# Altium schematic symbol library Timer_RTC.SchLib: 39 symbols
Pins are listed as number, name and electrical type; pins without a type are passive.

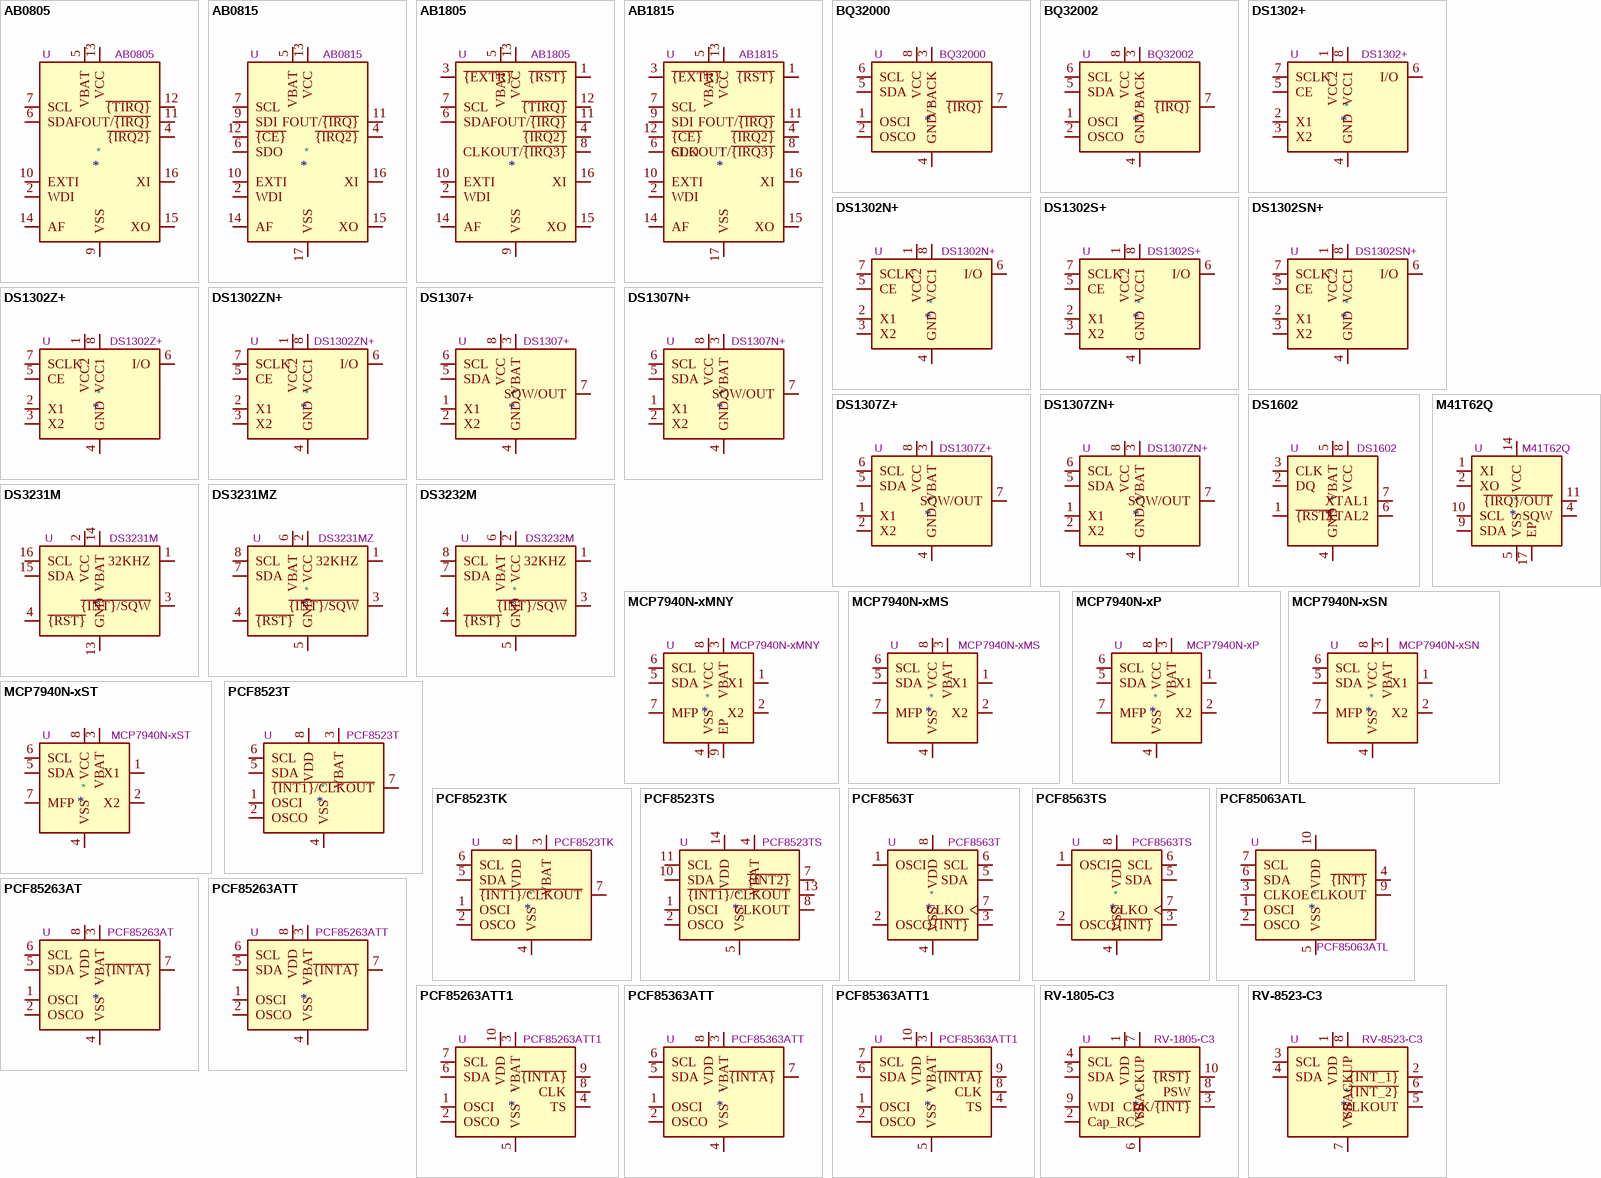
[diagram p0: symbols AB0805 to RV-8523-C3]

## AB0805
designator *  value AB0805  Reference: U
ki_keywords: rtc; ki_description: Real-Time Clock, I2C Interface, 3 GPO, QFN-16; ki_fp_filters: VQFN*1EP*3x3mm*P0.5mm*; Footprint: Package_DFN_QFN:VQFN-16-1EP_3x3mm_P0.5mm_EP1.8x1.8mm; Datasheet: https://abracon.com/Precisiontiming/AB08X5-RTC.PDF
pins: 1 NC hidden, 2 WDI, 3 NC hidden, 4 ~{{IRQ2}}, 5 VBAT, 6 SDA, 7 SCL, 8 NC hidden, 9 VSS, 10 EXTI, 11 FOUT/~{{IRQ}}, 12 ~{{TIRQ}}, 13 VCC, 14 AF, 15 XO, 16 XI, 17 VSS hidden

## AB0815
designator *  value AB0815  Reference: U
ki_keywords: rtc; ki_description: Real-Time Clock, SPI Interface, 2 GPO, QFN-16; ki_fp_filters: VQFN*1EP*3x3mm*P0.5mm*; Footprint: Package_DFN_QFN:VQFN-16-1EP_3x3mm_P0.5mm_EP1.8x1.8mm; Datasheet: https://abracon.com/Precisiontiming/AB08X5-RTC.PDF
pins: 1 NC hidden, 2 WDI, 3 NC hidden, 4 ~{{IRQ2}}, 5 VBAT, 6 SDO, 7 SCL, 8 NC hidden, 9 SDI, 10 EXTI, 11 FOUT/~{{IRQ}}, 12 ~{{CE}}, 13 VCC, 14 AF, 15 XO, 16 XI, 17 VSS

## AB1805
designator *  value AB1805  Reference: U
ki_keywords: rtc; ki_description: Real-Time Clock, I2C Interface, 4 GPO, QFN-16; ki_fp_filters: VQFN*1EP*3x3mm*P0.5mm*; Footprint: Package_DFN_QFN:VQFN-16-1EP_3x3mm_P0.5mm_EP1.8x1.8mm; Datasheet: https://abracon.com/Precisiontiming/AB18X5-RTC.pdf
pins: 1 ~{{RST}}, 2 WDI, 3 ~{{EXTR}}, 4 ~{{IRQ2}}, 5 VBAT, 6 SDA, 7 SCL, 8 CLKOUT/~{{IRQ3}}, 9 VSS, 10 EXTI, 11 FOUT/~{{IRQ}}, 12 ~{{TIRQ}}, 13 VCC, 14 AF, 15 XO, 16 XI, 17 VSS hidden

## AB1815
designator *  value AB1815  Reference: U
ki_keywords: rtc; ki_description: Real-Time Clock, SPI Interface, 3 GPO, QFN-16; ki_fp_filters: VQFN*1EP*3x3mm*P0.5mm*; Footprint: Package_DFN_QFN:VQFN-16-1EP_3x3mm_P0.5mm_EP1.8x1.8mm; Datasheet: https://abracon.com/Precisiontiming/AB18X5-RTC.pdf
pins: 1 ~{{RST}}, 2 WDI, 3 ~{{EXTR}}, 4 ~{{IRQ2}}, 5 VBAT, 6 SDO, 7 SCL, 8 CLKOUT/~{{IRQ3}}, 9 SDI, 10 EXTI, 11 FOUT/~{{IRQ}}, 12 ~{{CE}}, 13 VCC, 14 AF, 15 XO, 16 XI, 17 VSS

## BQ32000
designator *  value BQ32000  Reference: U
ki_keywords: RTC, I2C Timekeeping Chip; ki_description: Serial, I2C Real-time clock, Trickle charger, 3V to 3.6V VCC, -40°C to +85°C, SOIC-8; ki_fp_filters: SOIC*3.9x4.9mm?P1.27mm*; Footprint: Package_SO:SOIC-8_3.9x4.9mm_P1.27mm; Datasheet: http://www.ti.com/lit/ds/symlink/bq32000.pdf
pins: 1 OSCI, 2 OSCO, 3 VBACK, 4 GND, 5 SDA, 6 SCL, 7 ~{{IRQ}}, 8 VCC

## BQ32002
designator *  value BQ32002  Reference: U
ki_keywords: RTC, I2C Timekeeping Chip; ki_description: Serial, I2C Real-time clock, 3V to 3.6V VCC, -40°C to +85°C, SOIC-8; ki_fp_filters: SOIC*3.9x4.9mm?P1.27mm*; Footprint: Package_SO:SOIC-8_3.9x4.9mm_P1.27mm; Datasheet: http://www.ti.com/lit/ds/symlink/bq32002.pdf
pins: 1 OSCI, 2 OSCO, 3 VBACK, 4 GND, 5 SDA, 6 SCL, 7 ~{{IRQ}}, 8 VCC

## DS1302+
designator *  value DS1302+  Reference: U
ki_keywords: RTC, Trickle-Charge Timekeeping Chip; ki_description: Trickle-Charge Timekeeping Chip, 2.0V to 5.5V VCC, 0°C to +70°C, DIP-8; ki_fp_filters: DIP*W7.62mm*; Footprint: Package_DIP:DIP-8_W7.62mm; Datasheet: https://datasheets.maximintegrated.com/en/ds/DS1302.pdf
pins: 1 VCC2, 2 X1, 3 X2, 4 GND, 5 CE, 6 I/O, 7 SCLK, 8 VCC1

## DS1302N+
designator *  value DS1302N+  Reference: U
ki_keywords: RTC, Trickle-Charge Timekeeping Chip; ki_description: Trickle-Charge Timekeeping Chip, 2.0V to 5.5V VCC, -40°C to +85°C, DIP-8; ki_fp_filters: DIP*W7.62mm*; Footprint: Package_DIP:DIP-8_W7.62mm; Datasheet: https://datasheets.maximintegrated.com/en/ds/DS1302.pdf
pins: 1 VCC2, 2 X1, 3 X2, 4 GND, 5 CE, 6 I/O, 7 SCLK, 8 VCC1

## DS1302S+
designator *  value DS1302S+  Reference: U
ki_keywords: RTC, Trickle-Charge Timekeeping Chip; ki_description: Trickle-Charge Timekeeping Chip, 2.0V to 5.5V VCC, 0°C to +70°C, SO-8; ki_fp_filters: SO*5.3x6.2mm?P1.27mm*; Footprint: Package_SO:SO-8_5.3x6.2mm_P1.27mm; Datasheet: https://datasheets.maximintegrated.com/en/ds/DS1302.pdf
pins: 1 VCC2, 2 X1, 3 X2, 4 GND, 5 CE, 6 I/O, 7 SCLK, 8 VCC1

## DS1302SN+
designator *  value DS1302SN+  Reference: U
ki_keywords: RTC, Trickle-Charge Timekeeping Chip; ki_description: Trickle-Charge Timekeeping Chip, 2.0V to 5.5V VCC, -40°C to +85°C, SO-8; ki_fp_filters: SO*5.3x6.2mm?P1.27mm*; Footprint: Package_SO:SO-8_5.3x6.2mm_P1.27mm; Datasheet: https://datasheets.maximintegrated.com/en/ds/DS1302.pdf
pins: 1 VCC2, 2 X1, 3 X2, 4 GND, 5 CE, 6 I/O, 7 SCLK, 8 VCC1

## DS1302Z+
designator *  value DS1302Z+  Reference: U
ki_keywords: RTC, Trickle-Charge Timekeeping Chip; ki_description: Trickle-Charge Timekeeping Chip, 2.0V to 5.5V VCC, 0°C to +70°C, SOIC-8; ki_fp_filters: SOIC*3.9x4.9mm?P1.27mm*; Footprint: Package_SO:SOIC-8_3.9x4.9mm_P1.27mm; Datasheet: https://datasheets.maximintegrated.com/en/ds/DS1302.pdf
pins: 1 VCC2, 2 X1, 3 X2, 4 GND, 5 CE, 6 I/O, 7 SCLK, 8 VCC1

## DS1302ZN+
designator *  value DS1302ZN+  Reference: U
ki_keywords: RTC, Trickle-Charge Timekeeping Chip; ki_description: Trickle-Charge Timekeeping Chip, 2.0V to 5.5V VCC, -40°C to +85°C, SOIC-8; ki_fp_filters: SOIC*3.9x4.9mm?P1.27mm*; Footprint: Package_SO:SOIC-8_3.9x4.9mm_P1.27mm; Datasheet: https://datasheets.maximintegrated.com/en/ds/DS1302.pdf
pins: 1 VCC2, 2 X1, 3 X2, 4 GND, 5 CE, 6 I/O, 7 SCLK, 8 VCC1

## DS1307+
designator *  value DS1307+  Reference: U
ki_keywords: RTC, Trickle-Charge Timekeeping Chip; ki_description: 64 x 8, Serial, I2C Real-time clock, 4.5V to 5.5V VCC, 0°C to +70°C, DIP-8; ki_fp_filters: DIP*W7.62mm*; Footprint: Package_DIP:DIP-8_W7.62mm; Datasheet: https://datasheets.maximintegrated.com/en/ds/DS1307.pdf
pins: 1 X1, 2 X2, 3 VBAT, 4 GND, 5 SDA, 6 SCL, 7 SQW/OUT, 8 VCC

## DS1307N+
designator *  value DS1307N+  Reference: U
ki_keywords: RTC, Trickle-Charge Timekeeping Chip; ki_description: 64 x 8, Serial, I2C Real-time clock, 4.5V to 5.5V VCC, -40°C to +85°C, DIP-8; ki_fp_filters: DIP*W7.62mm*; Footprint: Package_DIP:DIP-8_W7.62mm; Datasheet: https://datasheets.maximintegrated.com/en/ds/DS1307.pdf
pins: 1 X1, 2 X2, 3 VBAT, 4 GND, 5 SDA, 6 SCL, 7 SQW/OUT, 8 VCC

## DS1307Z+
designator *  value DS1307Z+  Reference: U
ki_keywords: RTC, I2C Timekeeping Chip; ki_description: 64 x 8, Serial, I2C Real-time clock, 4.5V to 5.5V VCC, 0°C to +70°C, SOIC-8; ki_fp_filters: SOIC*3.9x4.9mm?P1.27mm*; Footprint: Package_SO:SOIC-8_3.9x4.9mm_P1.27mm; Datasheet: https://datasheets.maximintegrated.com/en/ds/DS1307.pdf
pins: 1 X1, 2 X2, 3 VBAT, 4 GND, 5 SDA, 6 SCL, 7 SQW/OUT, 8 VCC

## DS1307ZN+
designator *  value DS1307ZN+  Reference: U
ki_keywords: RTC, I2C Timekeeping Chip; ki_description: 64 x 8, Serial, I2C Real-time clock, 4.5V to 5.5V VCC, -40°C to +85°C, SOIC-8; ki_fp_filters: SOIC*3.9x4.9mm?P1.27mm*; Footprint: Package_SO:SOIC-8_3.9x4.9mm_P1.27mm; Datasheet: https://datasheets.maximintegrated.com/en/ds/DS1307.pdf
pins: 1 X1, 2 X2, 3 VBAT, 4 GND, 5 SDA, 6 SCL, 7 SQW/OUT, 8 VCC

## DS1602
designator *  value DS1602  Reference: U
ki_keywords: Elapsed Time Counter; ki_description: Elapsed Time Counter, -40 to +85 C, 2.5V to 5.5V VCC, DIP-8, SO-8; ki_fp_filters: DIP*W7.62mm* SO*5.3x6.2mm?P1.27mm*; Datasheet: https://datasheets.maximintegrated.com/en/ds/DS1602.pdf
pins: 1 ~{{RST}}, 2 DQ, 3 CLK, 4 GND, 5 VBAT, 6 XTAL2, 7 XTAL1, 8 VCC

## DS3231M
designator *  value DS3231M  Reference: U
ki_keywords: RTC TCXO Realtime Time Clock Crystal Oscillator I2C; ki_description: Extremely Accurate I2C-Integrated RTC/TCXO/Crystal SOIC-16; ki_fp_filters: SOIC*7.5x10.3mm*P1.27mm*; Footprint: Package_SO:SOIC-16W_7.5x10.3mm_P1.27mm; Datasheet: http://datasheets.maximintegrated.com/en/ds/DS3231.pdf
pins: 1 32KHZ, 2 VCC, 3 ~{{INT}/SQW}, 4 ~{{RST}}, 5 GND hidden, 6 GND hidden, 7 GND hidden, 8 GND hidden, 9 GND hidden, 10 GND hidden, 11 GND hidden, 12 GND hidden, 13 GND, 14 VBAT, 15 SDA, 16 SCL

## DS3231MZ
designator *  value DS3231MZ  Reference: U
ki_keywords: RTC TCXO Realtime Time Clock MEMS I2C; ki_description: ±5ppm, I2C Real-Time Clock SOIC-8; ki_fp_filters: SOIC*3.9x4.9mm*P1.27mm*; Footprint: Package_SO:SOIC-8_3.9x4.9mm_P1.27mm; Datasheet: http://datasheets.maximintegrated.com/en/ds/DS3231M.pdf
pins: 1 32KHZ, 2 VCC, 3 ~{{INT}/SQW}, 4 ~{{RST}}, 5 GND, 6 VBAT, 7 SDA, 8 SCL

## DS3232M
designator *  value DS3232M  Reference: U
ki_keywords: RTC TCXO Realtime Time Clock MEMS SRAM I2C; ki_description: ±5ppm, I2C Real-Time Clock with SRAM SOIC-8; ki_fp_filters: SOIC*3.9x4.9mm*P1.27mm*; Footprint: Package_SO:SOIC-8_3.9x4.9mm_P1.27mm; Datasheet: http://datasheets.maximintegrated.com/en/ds/DS3232M.pdf
pins: 1 32KHZ, 2 VCC, 3 ~{{INT}/SQW}, 4 ~{{RST}}, 5 GND, 6 VBAT, 7 SDA, 8 SCL

## M41T62Q
designator *  value M41T62Q  Reference: U
ki_keywords: I2C RTC Alarm interrupt; ki_description: Low-power I2C RTC with alarm interrupt QFN; ki_fp_filters: QFN*16*1EP*3x3mm*P0.5mm*EP1.8x1.8mm*; Footprint: Package_DFN_QFN:QFN-16-1EP_3x3mm_P0.5mm_EP1.8x1.8mm; Datasheet: http://www.st.com/resource/en/datasheet/m41t62.pdf
pins: 1 XI, 2 XO, 4 SQW, 5 VSS, 9 SDA, 10 SCL, 11 ~{{IRQ}/OUT}, 14 VCC, 17 EP

## MCP7940N-xMNY
designator *  value MCP7940N-xMNY  Reference: U
ki_keywords: realtime clock RTC; ki_description: Real-Time Clock, I2C, Battery Backup, TDFN-8; ki_fp_filters: DFN*1EP*3x2mm*P0.5mm*; Footprint: Package_DFN_QFN:DFN-8-1EP_3x2mm_P0.5mm_EP1.36x1.46mm; Datasheet: http://ww1.microchip.com/downloads/en/DeviceDoc/20005010F.pdf
pins: 1 X1, 2 X2, 3 VBAT, 4 VSS, 5 SDA, 6 SCL, 7 MFP, 8 VCC, 9 EP

## MCP7940N-xMS
designator *  value MCP7940N-xMS  Reference: U
ki_keywords: realtime clock RTC; ki_description: Real-Time Clock, I2C, Battery Backup, MSOP-8; ki_fp_filters: SOIC*3.9x4.9mm*P1.27mm* TSSOP*4.4x3mm*P0.65mm* MSOP*3x3mm*P0.65mm* DIP*W7.62mm*; Datasheet: http://ww1.microchip.com/downloads/en/DeviceDoc/20005010F.pdf
pins: 1 X1, 2 X2, 3 VBAT, 4 VSS, 5 SDA, 6 SCL, 7 MFP, 8 VCC

## MCP7940N-xP
designator *  value MCP7940N-xP  Reference: U
ki_keywords: realtime clock RTC; ki_description: Real-Time Clock, I2C, Battery Backup, DIP-8; ki_fp_filters: SOIC*3.9x4.9mm*P1.27mm* TSSOP*4.4x3mm*P0.65mm* MSOP*3x3mm*P0.65mm* DIP*W7.62mm*; Datasheet: http://ww1.microchip.com/downloads/en/DeviceDoc/20005010F.pdf
pins: 1 X1, 2 X2, 3 VBAT, 4 VSS, 5 SDA, 6 SCL, 7 MFP, 8 VCC

## MCP7940N-xSN
designator *  value MCP7940N-xSN  Reference: U
ki_keywords: realtime clock RTC; ki_description: Real-Time Clock, I2C, Battery Backup, SOIC-8; ki_fp_filters: SOIC*3.9x4.9mm*P1.27mm* TSSOP*4.4x3mm*P0.65mm* MSOP*3x3mm*P0.65mm* DIP*W7.62mm*; Datasheet: http://ww1.microchip.com/downloads/en/DeviceDoc/20005010F.pdf
pins: 1 X1, 2 X2, 3 VBAT, 4 VSS, 5 SDA, 6 SCL, 7 MFP, 8 VCC

## MCP7940N-xST
designator *  value MCP7940N-xST  Reference: U
ki_keywords: realtime clock RTC; ki_description: Real-Time Clock, I2C, Battery Backup, TSSOP-8; ki_fp_filters: SOIC*3.9x4.9mm*P1.27mm* TSSOP*4.4x3mm*P0.65mm* MSOP*3x3mm*P0.65mm* DIP*W7.62mm*; Datasheet: http://ww1.microchip.com/downloads/en/DeviceDoc/20005010F.pdf
pins: 1 X1, 2 X2, 3 VBAT, 4 VSS, 5 SDA, 6 SCL, 7 MFP, 8 VCC

## PCF8523T
designator *  value PCF8523T  Reference: U
ki_keywords: I2C RTC Clock Calendar; ki_description: Realtime Clock/Calendar I2C Interface, SOIC-8; ki_fp_filters: SOIC*3.9x4.9mm*P1.27mm*; Footprint: Package_SO:SOIC-8_3.9x4.9mm_P1.27mm; Datasheet: https://www.nxp.com/docs/en/data-sheet/PCF8523.pdf
pins: 1 OSCI, 2 OSCO, 3 VBAT, 4 VSS, 5 SDA, 6 SCL, 7 ~{{INT1}/CLKOUT}, 8 VDD

## PCF8523TK
designator *  value PCF8523TK  Reference: U
ki_keywords: I2C RTC Clock Calendar; ki_description: Realtime Clock/Calendar I2C Interface, HVSON-8; ki_fp_filters: HVSON*1EP*4x4mm*P0.8mm*; Footprint: Package_SON:HVSON-8-1EP_4x4mm_P0.8mm_EP2.2x3.1mm; Datasheet: https://www.nxp.com/docs/en/data-sheet/PCF8523.pdf
pins: 1 OSCI, 2 OSCO, 3 VBAT, 4 VSS, 5 SDA, 6 SCL, 7 ~{{INT1}/CLKOUT}, 8 VDD, 9 VSS hidden

## PCF8523TS
designator *  value PCF8523TS  Reference: U
ki_keywords: I2C RTC Clock Calendar; ki_description: Realtime Clock/Calendar I2C Interface, TSSOP-14; ki_fp_filters: TSSOP*4.4x5mm*P0.65mm*; Footprint: Package_SO:TSSOP-14_4.4x5mm_P0.65mm; Datasheet: https://www.nxp.com/docs/en/data-sheet/PCF8523.pdf
pins: 1 OSCI, 2 OSCO, 3 NC hidden, 4 VBAT, 5 VSS, 6 NC hidden, 7 ~{{INT2}}, 8 CLKOUT, 9 NC hidden, 10 SDA, 11 SCL, 12 NC hidden, 13 ~{{INT1}/CLKOUT}, 14 VDD

## PCF8563T
designator *  value PCF8563T  Reference: U
ki_keywords: I2C RTC Clock Calendar; ki_description: Realtime Clock/Calendar I2C Interface, SOIC-8; ki_fp_filters: SOIC*3.9x4.9mm*P1.27mm*; Footprint: Package_SO:SOIC-8_3.9x4.9mm_P1.27mm; Datasheet: https://www.nxp.com/docs/en/data-sheet/PCF8563.pdf
pins: 1 OSCI, 2 OSCO, 3 ~{{INT}}, 4 VSS, 5 SDA, 6 SCL, 7 CLKO, 8 VDD

## PCF8563TS
designator *  value PCF8563TS  Reference: U
ki_keywords: I2C RTC Clock Calendar; ki_description: Realtime Clock/Calendar I2C Interface, TSSOP-8; ki_fp_filters: MSOP*3x3mm*P0.65mm*; Footprint: Package_SO:MSOP-8_3x3mm_P0.65mm; Datasheet: https://www.nxp.com/docs/en/data-sheet/PCF8563.pdf
pins: 1 OSCI, 2 OSCO, 3 ~{{INT}}, 4 VSS, 5 SDA, 6 SCL, 7 CLKO, 8 VDD

## PCF85063ATL
designator *  value PCF85063ATL  Reference: U
ki_keywords: RTC I2C; ki_description: I2C Real-Time Clock Calendar w/ Alarm, DFN-10; ki_fp_filters: DFN*2.6x2.6mm*P0.5mm*; Footprint: Package_DFN_QFN:DFN-10-1EP_2.6x2.6mm_P0.5mm_EP1.3x2.2mm; Datasheet: https://www.nxp.com/docs/en/data-sheet/PCF85063A.pdf
pins: 1 OSCI, 2 OSCO, 3 CLKOE, 4 ~{{INT}}, 5 VSS, 6 SDA, 7 SCL, 8 NC hidden, 9 CLKOUT, 10 VDD

## PCF85263AT
designator *  value PCF85263AT  Reference: U
ki_keywords: RTC battery I2C; ki_description: Tiny Real-Time Clock/calendar with alarm function, battery switch-over, time stamp input, I2C bus, SO-8; ki_fp_filters: SOIC*3.9x4.9mm*P1.27mm*; Footprint: Package_SO:SOIC-8_3.9x4.9mm_P1.27mm; Datasheet: https://www.nxp.com/docs/en/data-sheet/PCF85263A.pdf
pins: 1 OSCI, 2 OSCO, 3 VBAT, 4 VSS, 5 SDA, 6 SCL, 7 ~{{INTA}}, 8 VDD

## PCF85263ATT
designator *  value PCF85263ATT  Reference: U
ki_keywords: RTC battery I2C; ki_description: Tiny Real-Time Clock/calendar with alarm function, battery switch-over, time stamp input, I2C bus, TSSOP-8; ki_fp_filters: TSSOP*3x3mm*P0.65mm*; Footprint: Package_SO:TSSOP-8_3x3mm_P0.65mm; Datasheet: https://www.nxp.com/docs/en/data-sheet/PCF85263A.pdf
pins: 1 OSCI, 2 OSCO, 3 VBAT, 4 VSS, 5 SDA, 6 SCL, 7 ~{{INTA}}, 8 VDD

## PCF85263ATT1
designator *  value PCF85263ATT1  Reference: U
ki_keywords: RTC battery I2C; ki_description: Tiny Real-Time Clock/calendar with alarm function, battery switch-over, time stamp input, I2C bus, TSSOP-10; ki_fp_filters: TSSOP*3x3mm*P0.5mm*; Footprint: Package_SO:TSSOP-10_3x3mm_P0.5mm; Datasheet: https://www.nxp.com/docs/en/data-sheet/PCF85263A.pdf
pins: 1 OSCI, 2 OSCO, 3 VBAT, 4 TS, 5 VSS, 6 SDA, 7 SCL, 8 CLK, 9 ~{{INTA}}, 10 VDD

## PCF85363ATT
designator *  value PCF85363ATT  Reference: U
ki_keywords: RTC RAM battery I2C; ki_description: Tiny Real-Time Clock/calendar with 64 byte RAM, alarm function, battery switch-over, time stamp input, I2C bus, TSSOP-8; ki_fp_filters: TSSOP*3x3mm*P0.65mm*; Footprint: Package_SO:TSSOP-8_3x3mm_P0.65mm; Datasheet: https://www.nxp.com/docs/en/data-sheet/PCF85363A.pdf
pins: 1 OSCI, 2 OSCO, 3 VBAT, 4 VSS, 5 SDA, 6 SCL, 7 ~{{INTA}}, 8 VDD

## PCF85363ATT1
designator *  value PCF85363ATT1  Reference: U
ki_keywords: RTC RAM battery I2C; ki_description: Tiny Real-Time Clock/calendar with 64 byte RAM, alarm function, battery switch-over, time stamp input, I2C bus, TSSOP-10; ki_fp_filters: TSSOP*3x3mm*P0.5mm*; Footprint: Package_SO:TSSOP-10_3x3mm_P0.5mm; Datasheet: https://www.nxp.com/docs/en/data-sheet/PCF85363A.pdf
pins: 1 OSCI, 2 OSCO, 3 VBAT, 4 TS, 5 VSS, 6 SDA, 7 SCL, 8 CLK, 9 ~{{INTA}}, 10 VDD

## RV-1805-C3
designator *  value RV-1805-C3  Reference: U
ki_keywords: Low Power RTC I2C; ki_description: Realtime Clock/Calendar I2C Interface, Extreme Low Power, MicroCrystal C3; ki_fp_filters: RTC*SMD*MicroCrystal*C3*2.5x3.7mm*; Footprint: Package_SON:RTC_SMD_MicroCrystal_C3_2.5x3.7mm; Datasheet: https://www.microcrystal.com/fileadmin/Media/Products/RTC/Datasheet/RV-1805-C3.pdf
pins: 1 VDD, 2 Cap_RC, 3 CLK/~{{INT}}, 4 SCL, 5 SDA, 6 VSS, 7 VBACKUP, 8 PSW, 9 WDI, 10 ~{{RST}}

## RV-8523-C3
designator *  value RV-8523-C3  Reference: U
ki_keywords: Low Power RTC I2C; ki_description: Realtime Clock/Calendar I2C Interface, Low Power, 1.2 V to 5.5 V, MicroCrystal C3; ki_fp_filters: RTC*SMD*MicroCrystal*C3*2.5x3.7mm*; Footprint: Package_SON:RTC_SMD_MicroCrystal_C3_2.5x3.7mm; Datasheet: https://www.microcrystal.com/fileadmin/Media/Products/RTC/Datasheet/RV-8523-C3.pdf
pins: 1 VDD, 2 ~{{INT_1}}, 3 SCL, 4 SDA, 5 CLKOUT, 6 ~{{INT_2}}, 7 VSS, 8 VBACKUP, 9 NC hidden, 10 NC hidden